# Altium footprint library BUZ-TH_BD9.0-P5.00-D0.6-FD_2024-03-102.PcbLib: 1 footprints
Each footprint in its own frame and in the unit in brackets; x right, y up, seen from the top. Pads: shape width x height; smd on the part's side, far side on the other; paste and mask are expansions set on the pad; w line width, h text height; cw(c..) or ccw(c..) is an arc to the next point about the centre after c.
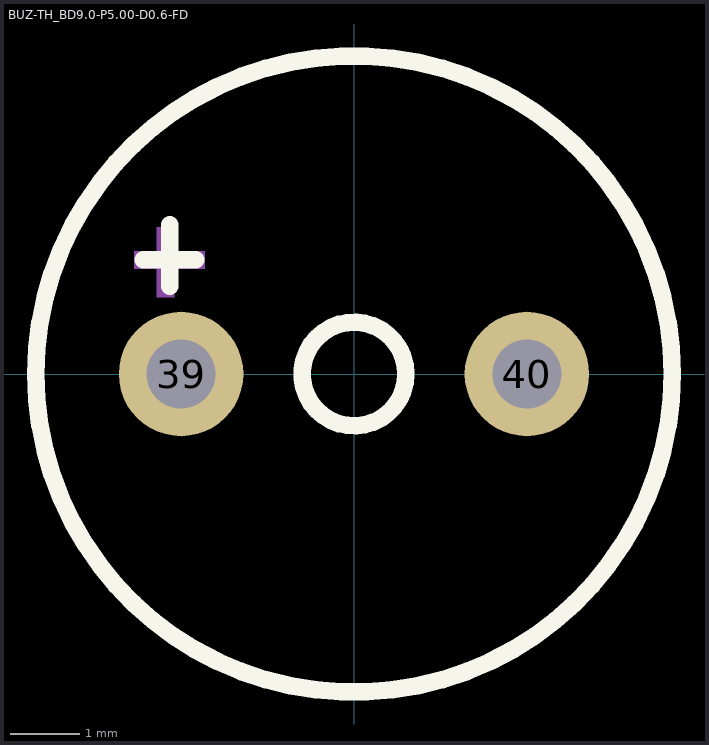
[diagram p0: the footprint, top view; thin cyan lines are the x and y axes]

## BUZ-TH_BD9.0-P5.00-D0.6-FD [mm]
pads (2):
  round 1.8 hole 1 paste+0 mask+0.051: 39(-2.5,0) 40(2.5,0)
Top Overlay:
  circle w0.254: c0,0 r0.75
  circle w0.254: c0,0 r4.6
  lines w0.254: -3.048,1.651 -2.286,1.651 ; -2.667,1.27 -2.667,2.159
Mechanical 15:
  region: -2.598,1.235 -2.598,2.124 -2.852,2.124 -2.852,1.108 -2.598,1.108
  region: -3.048,1.524 -2.159,1.524 -2.159,1.778 -3.175,1.778 -3.175,1.524